# Altium schematic symbol library LM3940IT-3.3.SchLib: 1 symbol
Pins are listed as number, name and electrical type; pins without a type are passive.

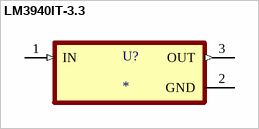
[diagram p0: symbol LM3940IT-3.3]

## LM3940IT-3.3
designator U?
MP: LM3940IT-3.3; MF: {'manufacturer': u'Texas Instruments'}; Availability: Unavailable; Price: None; Value: *; Package: None
footprint TO254P1054X470X1955-3
pins: 1 IN (in), 2 GND (power), 3 OUT (out)